# EAGLE library part MCP3202-ST (library U96-SVM)
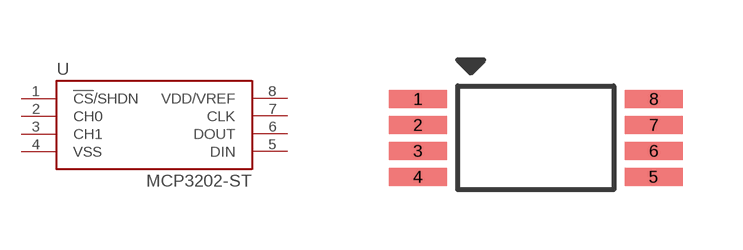
[diagram p1: symbol with the pads of MC-ST8; footprint MC-ST8]

Designator prefix U

## MCP3202-ST  [MC-ST8]
1  !CS!/SHDN
2  CH0
3  CH1
4  VSS
5  DIN
6  DOUT
7  CLK
8  VDD/VREF

## Footprint MC-ST8 (pad centres in mm)
smd 1.45 x 0.45: 1 -2.95,0.975; 2 -2.95,0.325; 3 -2.95,-0.325; 4 -2.95,-0.975; 5 2.95,-0.975; 6 2.95,-0.325; 7 2.95,0.325; 8 2.95,0.975